# Altium footprint library SOP30P50780X640X120L62X22N.PcbLib: 1 footprints
Each footprint in its own frame and in the unit in brackets; x right, y up, seen from the top. Pads: shape width x height; smd on the part's side, far side on the other; paste and mask are expansions set on the pad; w line width, h text height; cw(c..) or ccw(c..) is an arc to the next point about the centre after c.
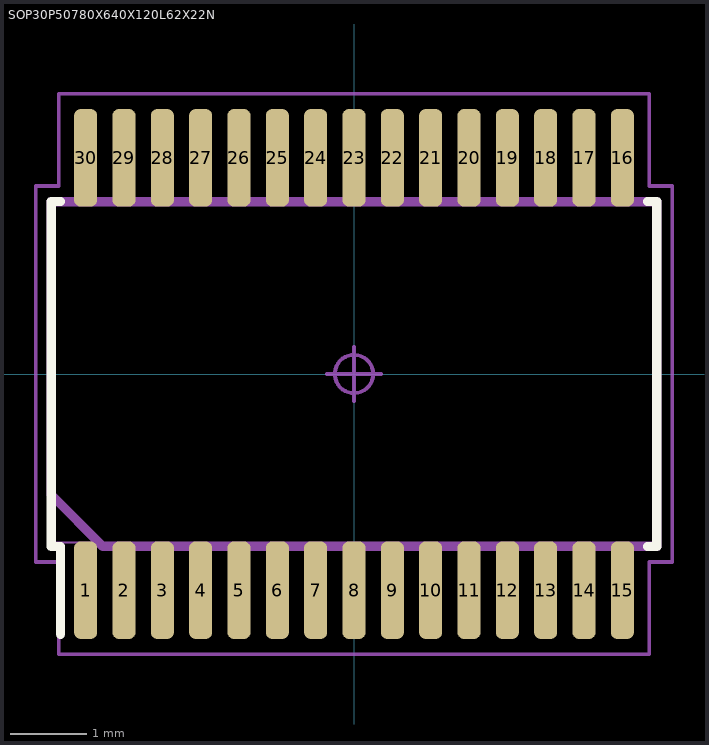
[diagram p0: the footprint, top view; thin cyan lines are the x and y axes]

## SOP30P50780X640X120L62X22N [mm] "Small Outline Pkg (SOP), 0.50 mm pitch; 30 pin, 7.80 mm L X 4.40 mm W X 1.20 mm H body"
height 1.2
pads (30):
  rrect53% 0.3x1.27 smd: 1(-3.5,-2.82) 2(-3,-2.82) 3(-2.5,-2.82) 4(-2,-2.82) 5(-1.5,-2.82) 6(-1,-2.82) 7(-0.5,-2.82) 8(0,-2.82) 9(0.5,-2.82) 10(1,-2.82) 11(1.5,-2.82) 12(2,-2.82) 13(2.5,-2.82) 14(3,-2.82) 15(3.5,-2.82) 16(3.5,2.82) 17(3,2.82) 18(2.5,2.82) 19(2,2.82) 20(1.5,2.82) 21(1,2.82) 22(0.5,2.82) 23(0,2.82) 24(-0.5,2.82) 25(-1,2.82) 26(-1.5,2.82) 27(-2,2.82) 28(-2.5,2.82) 29(-3,2.82) 30(-3.5,2.82)
Top Overlay:
  lines w0.12: -3.83,-3.395 -3.83,-2.25 -3.95,-2.25 -3.95,2.25 -3.83,2.25 ; 3.83,-2.25 3.95,-2.25 3.95,2.25 3.83,2.25
Mechanical 3:
  lines w0.12: -3.95,-1.575 -3.275,-2.25 3.95,-2.25 3.95,2.25 -3.95,2.25 -3.95,-1.575
Mechanical 5:
  lines w0.025: -3.9,-2.2 -3.9,2.2 3.9,2.2 3.9,-2.2 -3.9,-2.2 ; -3.61,-3.2 -3.39,-3.2 -3.39,-2.575 -3.61,-2.575 -3.61,-3.2 ; -3.61,2.575 -3.39,2.575 -3.39,3.2 -3.61,3.2 -3.61,2.575 ; -3.11,-3.2 -2.89,-3.2 -2.89,-2.575 -3.11,-2.575 -3.11,-3.2 ; -3.11,2.575 -2.89,2.575 -2.89,3.2 -3.11,3.2 -3.11,2.575 ; -2.61,-3.2 -2.39,-3.2 -2.39,-2.575 -2.61,-2.575 -2.61,-3.2 ; -2.61,2.575 -2.39,2.575 -2.39,3.2 -2.61,3.2 -2.61,2.575 ; -2.11,-3.2 -1.89,-3.2 -1.89,-2.575 -2.11,-2.575 -2.11,-3.2 ; -2.11,2.575 -1.89,2.575 -1.89,3.2 -2.11,3.2 -2.11,2.575 ; -1.61,-3.2 -1.39,-3.2 -1.39,-2.575 -1.61,-2.575 -1.61,-3.2 ; -1.61,2.575 -1.39,2.575 -1.39,3.2 -1.61,3.2 -1.61,2.575 ; -1.11,-3.2 -0.89,-3.2 -0.89,-2.575 -1.11,-2.575 -1.11,-3.2 ; -1.11,2.575 -0.89,2.575 -0.89,3.2 -1.11,3.2 -1.11,2.575 ; -0.61,-3.2 -0.39,-3.2 -0.39,-2.575 -0.61,-2.575 -0.61,-3.2 ; -0.61,2.575 -0.39,2.575 -0.39,3.2 -0.61,3.2 -0.61,2.575 ; -0.11,-3.2 0.11,-3.2 0.11,-2.575 -0.11,-2.575 -0.11,-3.2 ; -0.11,2.575 0.11,2.575 0.11,3.2 -0.11,3.2 -0.11,2.575 ; 0.39,-3.2 0.61,-3.2 0.61,-2.575 0.39,-2.575 0.39,-3.2 ; 0.39,2.575 0.61,2.575 0.61,3.2 0.39,3.2 0.39,2.575 ; 0.89,-3.2 1.11,-3.2 1.11,-2.575 0.89,-2.575 0.89,-3.2 ; 0.89,2.575 1.11,2.575 1.11,3.2 0.89,3.2 0.89,2.575 ; 1.39,-3.2 1.61,-3.2 1.61,-2.575 1.39,-2.575 1.39,-3.2 ; 1.39,2.575 1.61,2.575 1.61,3.2 1.39,3.2 1.39,2.575 ; 1.89,-3.2 2.11,-3.2 2.11,-2.575 1.89,-2.575 1.89,-3.2 ; 1.89,2.575 2.11,2.575 2.11,3.2 1.89,3.2 1.89,2.575 ; 2.39,-3.2 2.61,-3.2 2.61,-2.575 2.39,-2.575 2.39,-3.2 ; 2.39,2.575 2.61,2.575 2.61,3.2 2.39,3.2 2.39,2.575 ; 2.89,-3.2 3.11,-3.2 3.11,-2.575 2.89,-2.575 2.89,-3.2 ; 2.89,2.575 3.11,2.575 3.11,3.2 2.89,3.2 2.89,2.575 ; 3.39,-3.2 3.61,-3.2 3.61,-2.575 3.39,-2.575 3.39,-3.2 ; 3.39,2.575 3.61,2.575 3.61,3.2 3.39,3.2 3.39,2.575
Mechanical 7:
  circle w0.05: c0,0 r0.25
  lines w0.05: -0.35,0 0.35,0 ; 0,-0.35 0,0.35 ; -4.15,-2.45 -4.15,2.45 -3.85,2.45 -3.85,3.655 3.85,3.655 3.85,2.45 4.15,2.45 4.15,-2.45 3.85,-2.45 3.85,-3.655 -3.85,-3.655 -3.85,-2.45 -4.15,-2.45
Mechanical 9:
  text "'.Designator'" at -5.755,-0.354 h1
3D body "SOP30P50_780X640X120L62X22.STEP": height 1.2, standoff 0, extent -3.9,-3.2 3.9,3.2
3D body: height 0.03, standoff 0, extent -4.15,-3.65 4.15,3.65
3D body: height 1.04, standoff 0, extent -4.15,-3.655 4.15,3.655